# Altium footprint library Turck FSFD6.PcbLib: 1 footprints
Each footprint in its own frame and in the unit in brackets; x right, y up, seen from the top. Pads: shape width x height; smd on the part's side, far side on the other; paste and mask are expansions set on the pad; w line width, h text height; cw(c..) or ccw(c..) is an arc to the next point about the centre after c.
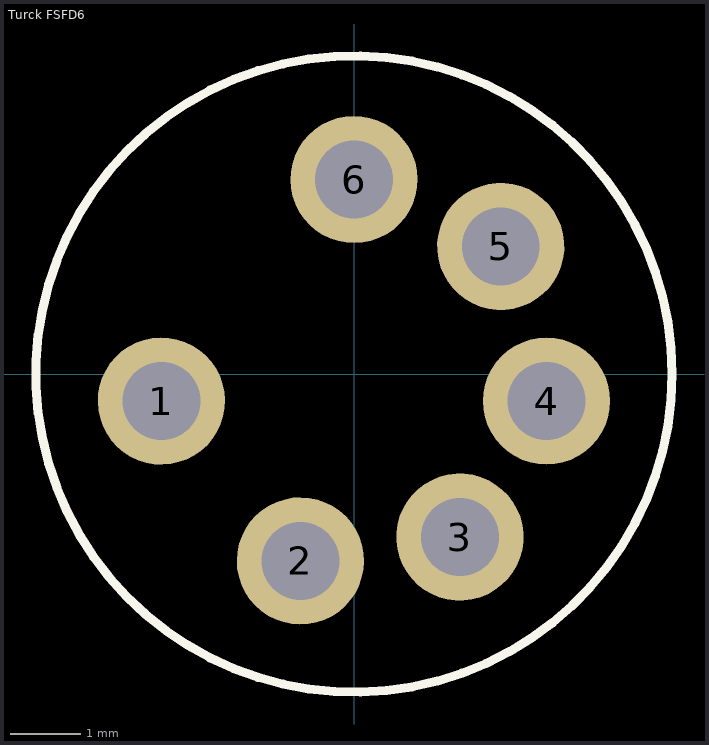
[diagram p0: the footprint, top view; thin cyan lines are the x and y axes]

## Turck FSFD6 [mm]
height 0.635
pads (6):
  round 1.8 hole 1.1: 1(-2.723,-0.383) 2(-0.758,-2.643) 3(1.498,-2.306) 4(2.723,-0.383) 5(2.075,1.804) 6(0,2.75)
TopOverlay:
  circle w0.127: c0,0 r4.5
3D body: height 31.1, standoff -3, extent -10.749,-9.5 10.749,9.5